# Altium schematic symbol library components.SchLib: 18 symbols
Pins are listed as number, name and electrical type; pins without a type are passive.

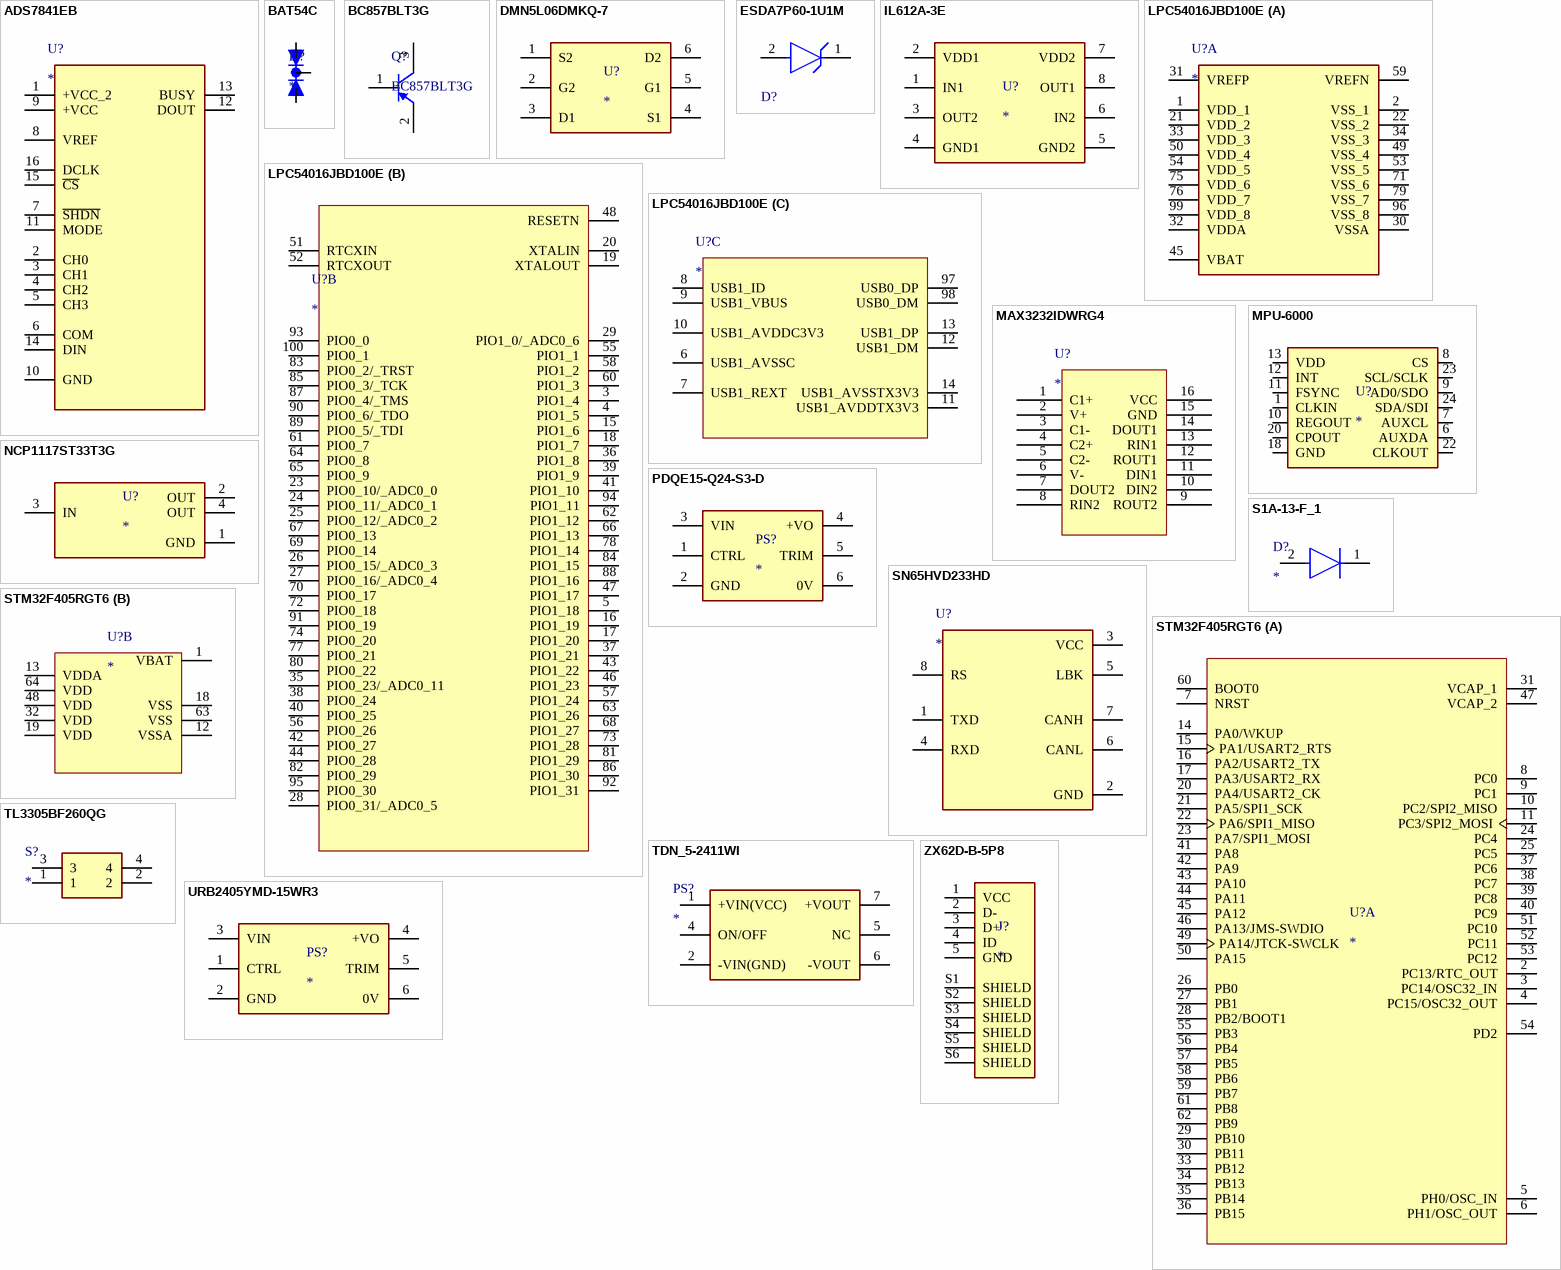
[diagram p0: symbols ADS7841EB to ZX62D-B-5P8]

## ADS7841EB
designator U?
Analogue to Digital Converter, 12 bit, 200 kSPS, Single, 2.7 V, 5.25 V, SSOP; MP: ADS7841EB; MF: Texas Instruments; SnapEDA_Link: https://www.snapeda.com/parts/ADS7841EB/Texas%20Instruments/view-part/559819/?ref=snap; Digi-Key_Purchase_URL: https://www.digikey.com/product-detail/en/texas-instruments/ADS7841EB-2K5/ADS7841EB-2K5-ND/300662?utm_source=snapeda&utm_medium=aggregator&utm_campaign=symbol; Value: *; Package: SSOP-16 Texas Instruments; Digi-Key_Part_Number: ADS7841EB/2K5-ND
footprint SOP63P600X175-16N
pins: 1 +VCC_2, 2 CH0, 3 CH1, 4 CH2, 5 CH3, 6 COM, 7 ~{SHDN}, 8 VREF, 9 +VCC, 10 GND, 11 MODE, 12 DOUT, 13 BUSY, 14 DIN, 15 ~{CS}, 16 DCLK

## BAT54C
designator D?
Diode Array 1 Pair Common Cathode Schottky 30V 200mA Surface Mount TO-236-3, SC-59, SOT-23-3; MF: ON Semiconductor; MP: BAT54C; Package: SOT-23-3 ON Semiconductor; Value: *; SnapEDA_Link: https://www.snapeda.com/parts/BAT54C/ON%20Semiconductor/view-part/1985258/?ref=snap; Availability: Unavailable; Price: None
footprint SOT23-3
pins: 1 A1, 2 A2, 3 C

## BC857BLT3G
designator Q?
General Purpose Transistor, PNP Silicon, 3-Pin SOT-23, Pb-Free, Tape and Reel; Manufacturer: On Semiconductor; fT Min (MHz): 100; IC Continuous (A): -0.1; Polarity: PNP; ComponentLink1Description: Manufacturer URL; ComponentLink2Description: Datasheet; DatasheetVersion: Rev. 13; Mounting Technology: Surface Mount; ComponentLink3URL: http://www.onsemi.cn/pub_link/Collateral/318-08.PDF; ComponentLink3Description: Package Specification; ComponentLink1URL: http://www.onsemi.com/; Packing: Tape and Reel; PackageVersion: Rev. AP, 11/2009; PartNumber: BC857BLT3G; PackageDescription: 3-Pin Small Outline Transistor, Body 2.92 x 1.3 mm, Pitch 0.95 mm; ComponentLink2URL: http://www.onsemi.cn/pub_link/Collateral/BC856ALT1-D.PDF; RoHS: TRUE; PackageReference: SOT-23-3-318-08
footprint SOT23-3
pins: 1 B, 2 E, 3 C

## DMN5L06DMKQ-7
designator U?
Transistor MOSFET Array Dual N-CH 50V 305mA 6-Pin SOT-26 T/R; Manufacturer: Diodes; Manufacturer Part Number: DMN5L06DMKQ-7; MP: TS19720CX6 RFG; MF: Taiwan Semiconductor; Rds On Max: 2R; Input Capacitance: 50pF; Max Power Dissipation: 400mW; FET Type: 2 N-Channel; Availability: In Stock; Package: SOT-26 Taiwan Semiconductor; Check_prices: https://www.snapeda.com/parts/TS19720CX6%20RFG/Taiwan+Semiconductor/view-part/?ref=eda; Price: None; SnapEDA_Link: https://www.snapeda.com/parts/TS19720CX6%20RFG/Taiwan+Semiconductor/view-part/?ref=snap; Value: *; Purchase-URL: https://pricing.snapeda.com/search/part/TS19720CX6 RFG/?ref=eda; Supplier 1: Digi-Key; RoHS: Yes; Category: MOSFETs; Stock 1: 50; Pricing 1: 1=0,56000, 10=0,47600, 100=0,35570, 500=0,27952, 1000=0,21598 (USD); Mount: Surface Mount; Case/Package: SOT-23-6; Min Operating Temperature: -65°C; Max Operating Temperature: 150°C; Packaging: Tape and Reel; Drain to Source Voltage (Vdss): 50V; Continuous Drain Current (ID): 305mA; RoHS Compliant: Yes; ComponentLink1URL: http://www.mouser.com/ds/2/115/ds30927-709407.pdf?src-supplier=Mouser; ComponentLink1Description: http://www.mouser.com/ds/2/115/ds30927-709407.pdf?src-supplier=Mouser; ComponentLink2URL: https://www.diodes.com/assets/Datasheets/DMN5L06DMKQ.pdf?src-supplier=Digi-Key; ComponentLink2Description: https://www.diodes.com/assets/Datasheets/DMN5L06DMKQ.pdf?src-supplier=Digi-Key; Supplier Part Number 1: DMN5L06DMKQ-7DICT-ND
footprint SOT-26
pins: 1 S2, 2 G2, 3 D1, 4 S1, 5 G1, 6 D2

## ESDA7P60-1U1M
designator D?  (value not drawn)
ESDA Series 6.4 V 700 W SMT Uni-Directional TVS Diode - 1610; Manufacturer: STMicroelectronics; Manufacturer Part Number: ESDA7P60-1U1M; Number of Unidirectional Channels: 1; Reverse Standoff Voltage: 5V; Min Breakdown Voltage: 6.4V; Clamping Voltage: 11.6V; Peak Pulse Power: 700W; Power Line Protection: No; Polarity: Unidirectional; Max Breakdown Voltage: 7.2V; Peak Pulse Current: 60A; Supplier 1: Digi-Key; RoHS: Yes; Category: TVS Diodes; Stock 1: 12994; Pricing 1: 1=0,51000, 10=0,38400, 100=0,23910, 500=0,16360, 1000=0,12584, 2000=0,11326 (USD); Mount: Surface Mount; Case/Package: 1610; Number of Pins: 2; Min Operating Temperature: -55°C; Max Operating Temperature: 150°C; Packaging: Cut Tape; Resistor Type: Zener; REACH SVHC: No SVHC; RoHS Compliant: Yes; ComponentLink1URL: http://www.farnell.com/datasheets/2041290.pdf?src-supplier=Farnell; ComponentLink1Description: http://www.farnell.com/datasheets/2041290.pdf?src-supplier=Farnell; ComponentLink2URL: http://www.st.com/content/ccc/resource/technical/document/datasheet/44/e9/26/44/42/ee/4f/e5/DM00139972.pdf/files/DM00139972.pdf/jcr:content/translations/en.DM00139972.pdf?src-supplier=Digi-Key; ComponentLink2Description: http://www.st.com/content/ccc/resource/technical/document/datasheet/44/e9/26/44/42/ee/4f/e5/DM00139972.pdf/files/DM00139972.pdf/jcr:content/translations/en.DM00139972.pdf?src-supplier=Digi-Key; ComponentLink3URL: http://www.farnell.com/datasheets/2041290.pdf?src-supplier=Element14; ComponentLink3Description: http://www.farnell.com/datasheets/2041290.pdf?src-supplier=Element14; Supplier Part Number 1: 497-16253-1-ND
footprint TVS-1610
pins: 1 C, 2 A

## IL612A-3E
designator U?
2-Channel Passive Input, Open-Drain Isolator, 2.5 kV, SOIC8,; MF: NVE; MP: IL612A-3E; Purchase-URL: https://pricing.snapeda.com/search/part/IL612A-3E/?ref=eda; Check_prices: https://www.snapeda.com/parts/IL612A-3E/NVE/view-part/?ref=eda; Package: SOIC-8 NVE; SnapEDA_Link: https://www.snapeda.com/parts/IL612A-3E/NVE/view-part/?ref=snap; Value: *; Digi-Key_Part_Number: 390-IL612A-3E-ND
footprint 8-soic
pins: 1 IN1, 2 VDD1, 3 OUT2, 4 GND1, 5 GND2, 6 IN2, 7 VDD2, 8 OUT1

## LPC54016JBD100E
designator U?
MCU 32-Bit LPC54016 ARM Cortex-M4 RISC ROM Less 1.71V to 3.6V 100-Pin LQFP Tray; Manufacturer: NXP Semiconductors; Manufacturer Part Number: LPC54016JBD100E; Supplier 1: Digi-Key; RoHS: No; Category: Microcontrollers; Stock 1: 1; Pricing 1: 1=11,88000 (USD); Supplier Part Number 1: 568-13835-ND
footprint LQFP-100
part A pins: 1 VDD_1, 2 VSS_1, 21 VDD_2, 22 VSS_2, 30 VSSA, 31 VREFP, 32 VDDA, 33 VDD_3, 34 VSS_3, 45 VBAT, 49 VSS_4, 50 VDD_4, 53 VSS_5, 54 VDD_5, 59 VREFN, 71 VSS_6, 75 VDD_6, 76 VDD_7, 79 VSS_7, 96 VSS_8, 99 VDD_8
part B pins: 3 PIO1_4, 4 PIO1_5, 5 PIO1_18, 15 PIO1_6, 16 PIO1_19, 17 PIO1_20, 18 PIO1_7, 19 XTALOUT, 20 XTALIN, 23 PIO0_10/_ADC0_0, 24 PIO0_11/_ADC0_1, 25 PIO0_12/_ADC0_2, 26 PIO0_15/_ADC0_3, 27 PIO0_16/_ADC0_4, 28 PIO0_31/_ADC0_5, 29 PIO1_0/_ADC0_6, 35 PIO0_23/_ADC0_11, 36 PIO1_8, 37 PIO1_21, 38 PIO0_24, 39 PIO1_9, 40 PIO0_25, 41 PIO1_10, 42 PIO0_27, 43 PIO1_22, 44 PIO0_28, 46 PIO1_23, 47 PIO1_17, 48 RESETN, 51 RTCXIN, 52 RTCXOUT, 55 PIO1_1, 56 PIO0_26, 57 PIO1_24, 58 PIO1_2, 60 PIO1_3, 61 PIO0_7, 62 PIO1_12, 63 PIO1_26, 64 PIO0_8, 65 PIO0_9, 66 PIO1_13, 67 PIO0_13, 68 PIO1_27, 69 PIO0_14, 70 PIO0_17, 72 PIO0_18, 73 PIO1_28, 74 PIO0_20, 77 PIO0_21, 78 PIO1_14, 80 PIO0_22, 81 PIO1_29, 82 PIO0_29, 83 PIO0_2/_TRST, 84 PIO1_15, 85 PIO0_3/_TCK, 86 PIO1_30, 87 PIO0_4/_TMS, 88 PIO1_16, 89 PIO0_5/_TDI, 90 PIO0_6/_TDO, 91 PIO0_19, 92 PIO1_31, 93 PIO0_0, 94 PIO1_11, 95 PIO0_30, 100 PIO0_1
part C pins: 6 USB1_AVSSC, 7 USB1_REXT, 8 USB1_ID, 9 USB1_VBUS, 10 USB1_AVDDC3V3, 11 USB1_AVDDTX3V3, 12 USB1_DM, 13 USB1_DP, 14 USB1_AVSSTX3V3, 97 USB0_DP, 98 USB0_DM

## MAX3232IDWRG4
designator U?
IC Transceiver Full 2/2 16SOIC; Manufacturer: Texas Instruments; Manufacturer Part Number: MAX3232IDWRG4; Nominal Supply Current: 1mA; Data Rate: 250Kbps; Number of Receivers: 2; Max Supply Voltage: 5.5V; Min Supply Voltage: 3V; Logic Function: Transceiver,Receiver; Number of Transceivers: 1; Operating Supply Voltage: 5V; Supplier 1: Digi-Key; RoHS: Yes; Category: RS-232 / RS-422 / RS-485 Interface ICs; Pricing 1: 2000=1,32825 (USD); Mount: Surface Mount; Case/Package: SOIC; Number of Pins: 16; Weight: 0.014829oz; Min Operating Temperature: -40°C; Max Operating Temperature: 85°C; Package Quantity: 2000; Packaging: Tape and Reel; Number of Transmitters: 2; Number of Drivers: 2; Series: -; Supply Current: 1mA; Lead Free: Lead Free; RoHS Compliant: Yes; ComponentLink1URL: https://datasheet.ciiva.com/1770/max3232-1770641.pdf?src-supplier=Digi-Key; ComponentLink1Description: https://datasheet.ciiva.com/1770/max3232-1770641.pdf?src-supplier=Digi-Key
footprint SOIC-16
pins: 1 C1+, 2 V+, 3 C1-, 4 C2+, 5 C2-, 6 V-, 7 DOUT2, 8 RIN2, 9 ROUT2, 10 DIN2, 11 DIN1, 12 ROUT1, 13 RIN1, 14 DOUT1, 15 GND, 16 VCC

## MPU-6000
designator U?
Accelerometer, Gyroscope, 6 Axis Sensor I2C, SPI Output; MF: TDK InvenSense; Value: *; SnapEDA_Link: https://www.snapeda.com/parts/MPU-6000/TDK%20InvenSense/view-part/43945/?ref=snap; Price: None; Availability: Unavailable; Package: QFN-24 TDK InvenSense; MP: MPU-6000
footprint QFN-24-EP
pins: 1 CLKIN, 6 AUXDA, 7 AUXCL, 8 CS, 9 AD0/SDO, 10 REGOUT, 11 FSYNC, 12 INT, 13 VDD, 18 GND, 20 CPOUT, 22 CLKOUT, 23 SCL/SCLK, 24 SDA/SDI

## NCP1117ST33T3G
designator U?
Linear Voltage Regulator IC 1 Output 1A SOT-223; MP: NCP1117ST33T3G; MF: ON Semiconductor; Value: *; SnapEDA_Link: https://www.snapeda.com/parts/NCP1117ST33T3G/ON%20Semiconductor/view-part/802519/?ref=snap; Availability: Unavailable; Price: None; Package: TO-261-4 HTC Korea
footprint SOT-223-4
pins: 1 GND, 2 OUT, 3 IN, 4 OUT

## PDQE15-Q24-S3-D
designator PS?
15 W, 4:1 Input Range, Single/Dual Regulated Output, DIP, 1500 Vdc Isolation, DC-DC Converter; MF: {'manufacturer': u'CUI'}; MP: PDQE15-Q24-S3-D; Value: *; Price: None; Availability: Unavailable; Package: None
footprint CONV_PDQE15-Q24-S3-D
pins: 1 CTRL, 2 GND, 3 VIN, 4 +VO, 5 TRIM, 6 0V

## S1A-13-F_1
designator D?
VR=50V IF=1A 10pF Trr=3us; Manufacturer: Diodes; Manufacturer Part Number: S1A-13-F; Forward Current: 1A; Max Repetitive Reverse Voltage (Vrrm): 50V; Element Configuration: Single; Reverse Recovery Time: 3us; Peak Non-Repetitive Surge Current: 30A; Max Reverse Current: 5uA; Forward Voltage: 1.1V; Recovery Time: 1.8us; Polarity: Standard; Supplier 1: Digi-Key; RoHS: Yes; Category: Rectifier Diodes; Stock 1: 971381; Pricing 1: 1=0,27000, 10=0,22300, 100=0,11850, 500=0,07796, 1000=0,05301, 2000=0,04782 (USD); Mount: Surface Mount; Case/Package: SMA; Number of Pins: 2; Weight: 0.002258oz; Min Operating Temperature: -65°C; Max Operating Temperature: 150°C; Packaging: Tape and Reel; Package Quantity: 5000; Max Surge Current: 30A; Reverse Voltage (DC): 50V; Average Rectified Current: 1A; Voltage Rating (DC): 50V; Current Rating: 1A; Capacitance: 10pF; Output Current: 1A; Max Reverse Voltage (DC): 50V; Series: -; Max Forward Surge Current (Ifsm): 30A; Termination: SMD/SMT; Length: 4.6mm; Width: 2.92mm; Height: 2.1mm; Radiation Hardening: No; Lead Free: Lead Free; RoHS Compliant: Yes; REACH SVHC: No SVHC; ComponentLink1URL: https://datasheet.ciiva.com/911/ds16003-911872.pdf?src-supplier=Digi-Key; ComponentLink1Description: https://datasheet.ciiva.com/911/ds16003-911872.pdf?src-supplier=Digi-Key; ComponentLink2URL: https://datasheet.ciiva.com/27052/1541520-27052419.pdf?src-supplier=Jameco; ComponentLink2Description: https://datasheet.ciiva.com/27052/1541520-27052419.pdf?src-supplier=Jameco; ComponentLink3URL: https://datasheet.ciiva.com/8301/ds16003-8301429.pdf?src-supplier=Avnet; ComponentLink3Description: https://datasheet.ciiva.com/8301/ds16003-8301429.pdf?src-supplier=Avnet; ComponentLink4URL: https://datasheet.ciiva.com/22695/1911706-22695830.pdf?src-supplier=Element14; ComponentLink4Description: https://datasheet.ciiva.com/22695/1911706-22695830.pdf?src-supplier=Element14; ComponentLink5URL: https://datasheet.ciiva.com/4453/ds16003-83672-4453580.pdf?src-supplier=Mouser; ComponentLink5Description: https://datasheet.ciiva.com/4453/ds16003-83672-4453580.pdf?src-supplier=Mouser; ComponentLink6URL: https://datasheet.ciiva.com/16199/ds16003-16199336.pdf?src-supplier=Future+Electronics; ComponentLink6Description: https://datasheet.ciiva.com/16199/ds16003-16199336.pdf?src-supplier=Future+Electronics; ComponentLink7URL: https://datasheet.ciiva.com/25953/ds16003-25953033.pdf?src-supplier=Avnet+Europe; ComponentLink7Description: https://datasheet.ciiva.com/25953/ds16003-25953033.pdf?src-supplier=Avnet+Europe; Supplier Part Number 1: S1A-FDICT-ND
footprint S1A-13-F
pins: 1 C, 2 A

## SN65HVD233HD
designator U?
1/1 Transceiver Half CANbus 8-SOIC; MP: SN65HVD233HD; Package: None; Price: None; Value: *; Availability: Unavailable
footprint 8-soic
pins: 1 TXD, 2 GND, 3 VCC, 4 RXD, 5 LBK, 6 CANL, 7 CANH, 8 RS

## STM32F405RGT6
designator U?
ARMÂ® CortexÂ®-M4 STM32F4 Microcontroller IC 32-Bit 168MHz 1MB _1M x 8_ FLASH 64-LQFP _10x10_; MF: STMicroelectronics; MP: STM32F405RGT6; Package: LQFP-64 STMicroelectronics; Digi-Key_Purchase_URL: https://www.digikey.com/product-detail/en/stmicroelectronics/STM32F405RGT6/497-11767-ND/2754208?utm_source=snapeda&utm_medium=aggregator&utm_campaign=symbol; Value: *; SnapEDA_Link: https://www.snapeda.com/parts/STM32F405RGT6/STMicroelectronics/view-part/105502/?ref=snap; Digi-Key_Part_Number: 497-11767-ND
footprint STMicroelectronics_LQFP64-5W_MFG
part A pins: 2 PC13/RTC_OUT, 3 PC14/OSC32_IN, 4 PC15/OSC32_OUT, 5 PH0/OSC_IN, 6 PH1/OSC_OUT, 7 NRST, 8 PC0, 9 PC1, 10 PC2/SPI2_MISO, 11 PC3/SPI2_MOSI, 14 PA0/WKUP, 15 PA1/USART2_RTS, 16 PA2/USART2_TX, 17 PA3/USART2_RX, 20 PA4/USART2_CK, 21 PA5/SPI1_SCK, 22 PA6/SPI1_MISO, 23 PA7/SPI1_MOSI, 24 PC4, 25 PC5, 26 PB0, 27 PB1, 28 PB2/BOOT1, 29 PB10, 30 PB11, 31 VCAP_1, 33 PB12, 34 PB13, 35 PB14, 36 PB15, 37 PC6, 38 PC7, 39 PC8, 40 PC9, 41 PA8, 42 PA9, 43 PA10, 44 PA11, 45 PA12, 46 PA13/JMS-SWDIO, 47 VCAP_2, 49 PA14/JTCK-SWCLK, 50 PA15, 51 PC10, 52 PC11, 53 PC12, 54 PD2, 55 PB3, 56 PB4, 57 PB5, 58 PB6, 59 PB7, 60 BOOT0, 61 PB8, 62 PB9
part B pins: 1 VBAT, 12 VSSA, 13 VDDA, 18 VSS, 19 VDD, 32 VDD, 48 VDD, 63 VSS, 64 VDD

## TDN_5-2411WI
designator PS?
TRACOPOWER         TDN 5-2411WI             Isolated Board Mount DC/DC Converter, Fixed, 1 Output, 9 V, 36 V, 5 W, 5 V                          New; Number of Outputs: 1; Min Input Voltage: 9V; Max Input Voltage: 36V; Max Output Power: 5W; Voltage - Output 1: 5V; Current - Output 1: 1A; Supplier 1: Digi-Key; Manufacturer: Traco Power; Manufacturer Part Number: TDN5-2411WI; RoHS: Yes; Category: Board Mount Modules; Stock 1: 137; Pricing 1: 1=25,79000, 10=25,23400, 25=24,83920, 40=23,65650, 80=21,68513, 230=21,29087, 440=21,02800 (USD); Width: 9.1mm; Height: 10.2mm; Depth: 13.2mm; RoHS Compliant: Yes; REACH SVHC: No SVHC; ComponentLink1URL: http://www.farnell.com/datasheets/2361759.pdf?src-supplier=Farnell; ComponentLink1Description: http://www.farnell.com/datasheets/2361759.pdf?src-supplier=Farnell; ComponentLink2URL: http://www.farnell.com/datasheets/2062557.pdf?src-supplier=Element14; ComponentLink2Description: http://www.farnell.com/datasheets/2062557.pdf?src-supplier=Element14; Supplier Part Number 1: 1951-1377-ND
footprint TDN 5-2411WI
pins: 1 +VIN(VCC), 2 -VIN(GND), 4 ON/OFF, 5 NC, 6 -VOUT, 7 +VOUT

## TL3305BF260QG
designator S?
Switch; Manufacturer_Name: E-Switch; Manufacturer_Part_Number: TL3305BF260QG; Datasheet Link: https://sten-eswitch-13110800-production.s3.amazonaws.com/system/asset/product_line/data_sheet/213/TL3305.pdf; Height: 5mm; Mouser Part Number: 612-TL3305BF260QG; Mouser Price/Stock: https://www.mouser.co.uk/ProductDetail/E-Switch/TL3305BF260QG?qs=UrFqKgNWc7Tq35XCdypyiw%3D%3D
footprint TL3305BF260QG
pins: 1, 2, 3, 4

## URB2405YMD-15WR3
designator PS?
Isolated Module DC DC Converter 1 Output 5V 3A 9V - 36V Input; MF: Mornsun America, LLC; MP: URB2405YMD-15WR3; Package: CUSTOM-6 MORNSUN; Digi-Key_Part_Number: 2725-URB2405YMD-15WR3-ND; Check_prices: https://www.snapeda.com/parts/URB2405YMD-15WR3/MORNSUN/view-part/5163763/?ref=eda; Value: *; SnapEDA_Link: https://www.snapeda.com/parts/URB2405YMD-15WR3/MORNSUN/view-part/5163763/?ref=snap
footprint CONV_URB2405YMD-15WR3
pins: 1 CTRL, 2 GND (power), 3 VIN, 4 +VO, 5 TRIM, 6 0V

## ZX62D-B-5P8
designator J?
Conn Micro USB 2.0 Type B RCP 5 POS 0.65mm Solder RA SMD 5 Terminal 1 Port Embossed T/R; MF: Hirose; MP: ZX62D-B-5P8; Value: *; Availability: Unavailable; SnapEDA_Link: https://www.snapeda.com/parts/ZX62D-B-5P8/Hirose%20Electric%20Co%20Ltd/view-part/46842/?ref=snap; Package: FakePackage u; Price: None
footprint HRS_ZX62D-B-5P8
pins: 1 VCC, 2 D-, 3 D+, 4 ID, 5 GND, S1 SHIELD, S2 SHIELD, S3 SHIELD, S4 SHIELD, S5 SHIELD, S6 SHIELD